# EAGLE library part LTC22* (library Analog Devices)
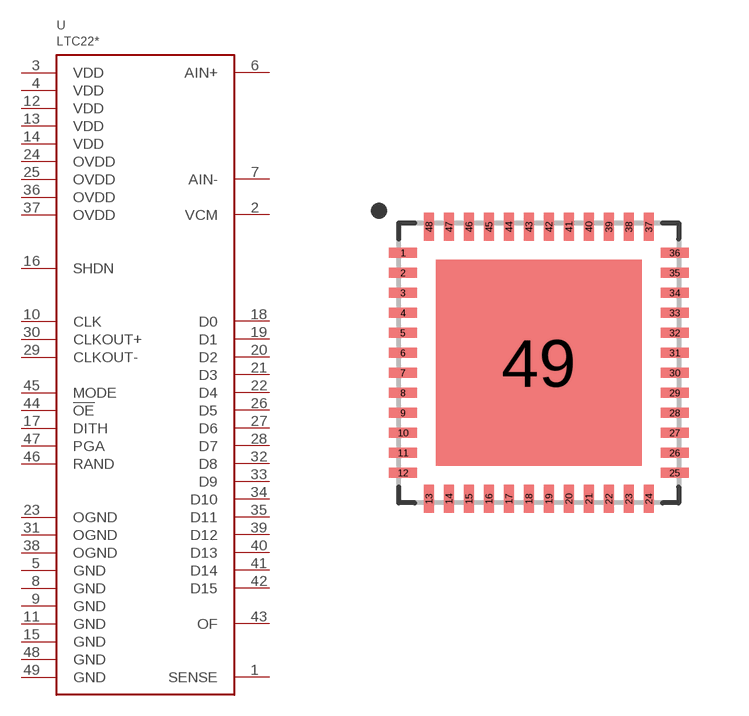
[diagram p17: symbol with the pads of QFN48; footprint QFN48]

Designator prefix U

## LTC2201, LTC2202, LTC2203  [QFN48]
1  SENSE
2  VCM
3  VDD
4  VDD
5  GND
6  AIN+
7  AIN-
8  GND
9  GND
10  CLK
11  GND
12  VDD
13  VDD
14  VDD
15  GND
16  SHDN
17  DITH
18  D0
19  D1
20  D2
21  D3
22  D4
23  OGND
24  OVDD
25  OVDD
26  D5
27  D6
28  D7
29  CLKOUT-
30  CLKOUT+
31  OGND
32  D8
33  D9
34  D10
35  D11
36  OVDD
37  OVDD
38  OGND
39  D12
40  D13
41  D14
42  D15
43  OF
44  !OE
45  MODE
46  RAND
47  PGA
48  GND
49  GND

## Footprint QFN48 (pad centres in mm)
smd 0.7 x 0.25: 1 -3.4,2.75; 2 -3.4,2.25; 3 -3.4,1.75; 4 -3.4,1.25; 5 -3.4,0.75; 6 -3.4,0.25; 7 -3.4,-0.25; 8 -3.4,-0.75; 9 -3.4,-1.25; 10 -3.4,-1.75; 11 -3.4,-2.25; 12 -3.4,-2.75; 25 3.4,-2.75; 26 3.4,-2.25; 27 3.4,-1.75; 28 3.4,-1.25; 29 3.4,-0.75; 30 3.4,-0.25; 31 3.4,0.25; 32 3.4,0.75; 33 3.4,1.25; 34 3.4,1.75; 35 3.4,2.25; 36 3.4,2.75
smd 0.25 x 0.7: 13 -2.75,-3.4; 14 -2.25,-3.4; 15 -1.75,-3.4; 16 -1.25,-3.4; 17 -0.75,-3.4; 18 -0.25,-3.4; 19 0.25,-3.4; 20 0.75,-3.4; 21 1.25,-3.4; 22 1.75,-3.4; 23 2.25,-3.4; 24 2.75,-3.4; 37 2.75,3.4; 38 2.25,3.4; 39 1.75,3.4; 40 1.25,3.4; 41 0.75,3.4; 42 0.25,3.4; 43 -0.25,3.4; 44 -0.75,3.4; 45 -1.25,3.4; 46 -1.75,3.4; 47 -2.25,3.4; 48 -2.75,3.4
smd 5.15 x 5.15: 49 0,0